# Altium schematic symbol library IC_Texas_Instruments_TPS62160DSGR_eec.SchLib: 1 symbol
Pins are listed as number, name and electrical type; pins without a type are passive.

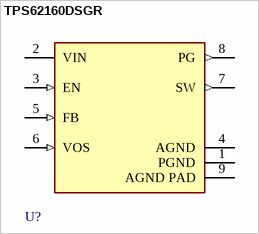
[diagram p0: symbol TPS62160DSGR]

## TPS62160DSGR
designator U?  (value not drawn)
pins: 1 PGND (power), 2 VIN (power), 3 EN (in), 4 AGND (power), 5 FB (in), 6 VOS (in), 7 SW (out), 8 PG (out), 9 AGND PAD (power)